# EAGLE library part 74AC244MTC (library Fairchild_By_element14_Batch_1)
Octal Buffer/Line Driver with 3-STATE Outputs
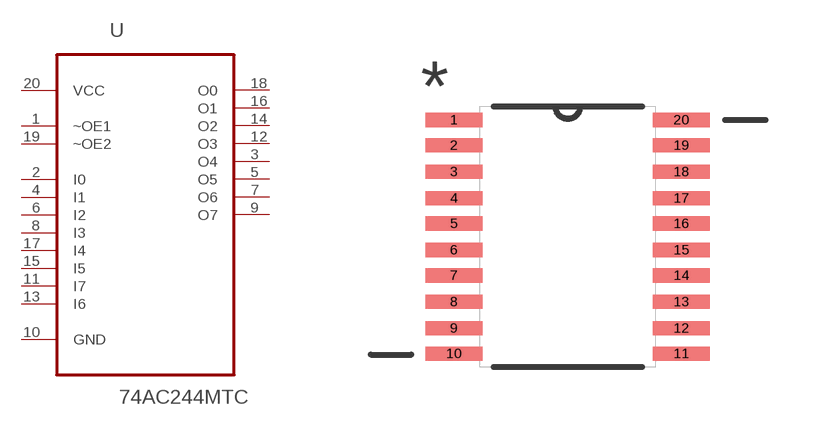
[diagram p19: symbol with the pads of SOP65P640X120-20N; footprint SOP65P640X120-20N]

Designator prefix U

## 74AC244MTC (MPN: 74AC244MTC; OC_FARNELL: 1467292; OC_NEWARK: 78K6218; PACKAGE: TSSOP-20; SUPPLIER: FAIRCHILD)  [SOP65P640X120-20N]
1  ~OE1  in
2  I0  in
3  O4  out
4  I1  in
5  O5  out
6  I2  in
7  O6  out
8  I3  in
9  O7  out
10  GND  pas
11  I7  in
12  O3  out
13  I6  in
14  O2  out
15  I5  in
16  O1  out
17  I4  in
18  O0  out
19  ~OE2  in
20  VCC  pwr

## Footprint SOP65P640X120-20N (pad centres in mm)
smd 1.422 x 0.356: 1 -2.845,2.921; 2 -2.845,2.286; 3 -2.845,1.626; 4 -2.845,0.965; 5 -2.845,0.33; 6 -2.845,-0.33; 7 -2.845,-0.965; 8 -2.845,-1.626; 9 -2.845,-2.286; 10 -2.845,-2.921; 11 2.845,-2.921; 12 2.845,-2.286; 13 2.845,-1.626; 14 2.845,-0.965; 15 2.845,-0.33; 16 2.845,0.33; 17 2.845,0.965; 18 2.845,1.626; 19 2.845,2.286; 20 2.845,2.921